# Altium schematic symbol library RS0104YQ.SchLib: 2 symbols
Pins are listed as number, name and electrical type; pins without a type are passive.

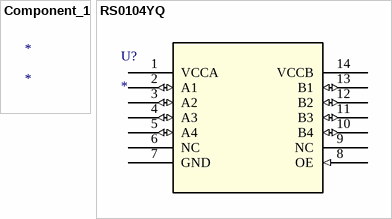
[diagram p0: symbols Component_1 to RS0104YQ]

## Component_1
designator *

## RS0104YQ
designator U?
No Description Available; Mfr_Name: RUNIC Technology; Type: Logic; RefDes: RefDes
footprint TSSOP-14_JRT
pins: 1 VCCA (power), 2 A1 (io), 3 A2 (io), 4 A3 (io), 5 A4 (io), 6 NC, 7 GND (power), 8 OE (in), 9 NC, 10 B4 (io), 11 B3 (io), 12 B2 (io), 13 B1 (io), 14 VCCB (power)